# Altium footprint library segdisplay.PcbLib: 1 footprints
Each footprint in its own frame and in the unit in brackets; x right, y up, seen from the top. Pads: shape width x height; smd on the part's side, far side on the other; paste and mask are expansions set on the pad; w line width, h text height; cw(c..) or ccw(c..) is an arc to the next point about the centre after c.
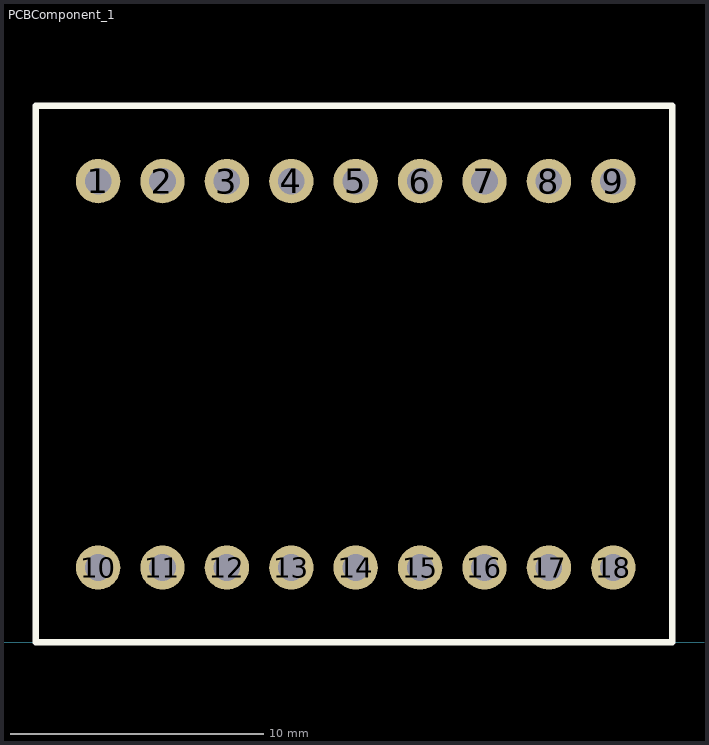
[diagram p0: the footprint, top view; thin cyan lines are the x and y axes]

## PCBComponent_1 [mm]
pads (18):
  round 1.75 hole 1.05: 1(4.615,18.181) 2(7.155,18.181) 3(9.695,18.181) 4(12.235,18.181) 5(14.775,18.181) 6(17.315,18.181) 7(19.855,18.181) 8(22.395,18.181) 9(24.935,18.181) 10(4.615,2.941) 11(7.155,2.941) 12(9.695,2.941) 13(12.235,2.941) 14(14.775,2.941) 15(17.315,2.941) 16(19.855,2.941) 17(22.395,2.941) 18(24.935,2.941)
Top Overlay:
  lines w0.254: 2.159,0 27.259,0 27.259,21.15 2.159,21.15 2.159,0